# EAGLE library part DICEII (library NewSDR)
Wavefront Technologies DICE II Digital Communications Engine
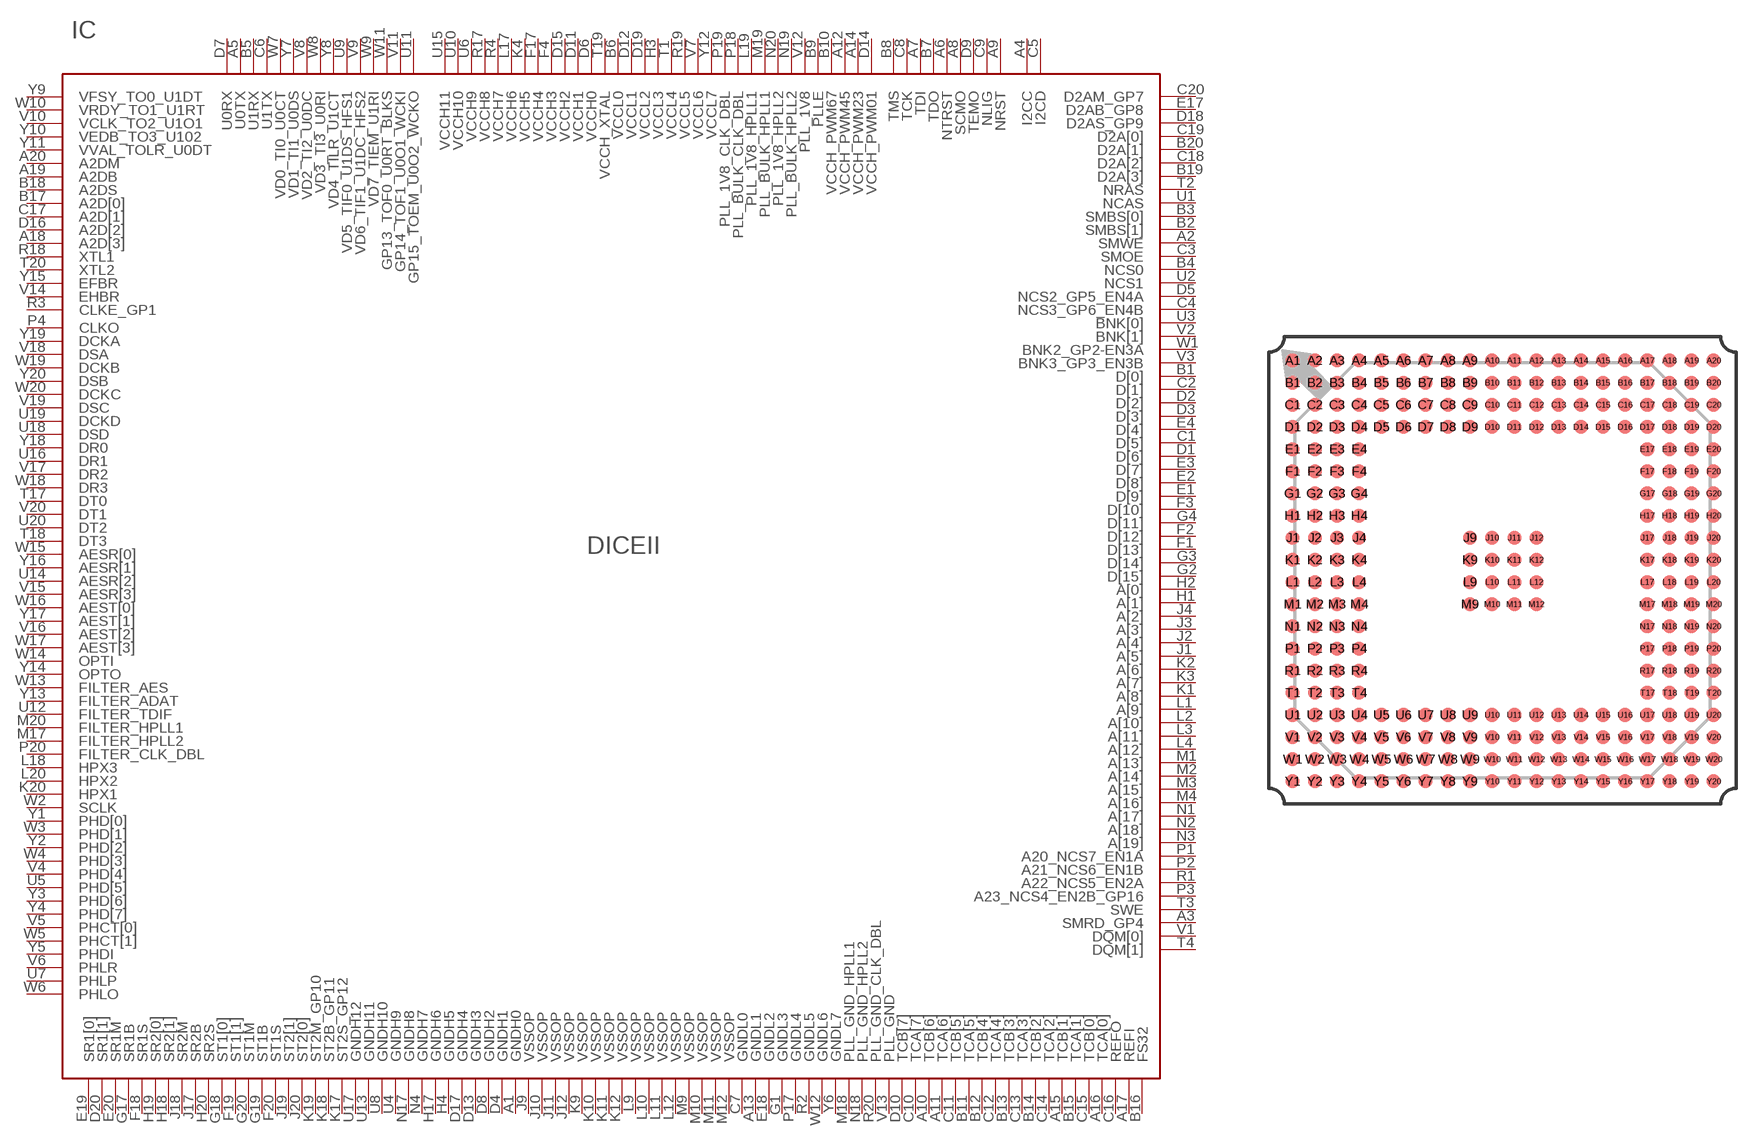
[diagram p6: symbol with the pads of BGA272-A; footprint BGA272-A]

Designator prefix IC

## DICEII  [BGA272-A]
A1  GNDH0  pwr
A2  SMWE  out
A3  SMRD_GP4
A4  I2CC
A5  U0TX  out
A6  NTRST  in
A7  TDI  in
A8  SCMO  in
A9  NRST  in
A10  TCB[6]  out
A11  TCA[6]  out
A12  VCCH_PWM45  pwr
A13  GNDL1  pwr
A14  VCCH_PWM23  pwr
A15  TCB[1]  out
A16  TCA[0]  out
A17  REFI  in
A18  A2D[3]  in
A19  A2DB  out
A20  A2DM  out
B1  D[0]
B2  SMBS[1]  out
B3  SMBS[0]  out
B4  NCS0  out
B5  U1RX  in
B6  VCCL0  pwr
B7  TDO  out
B8  TMS  in
B9  PLLE  in
B10  VCCH_PWM67  pwr
B11  TCA[5]  out
B12  TCB[4]  out
B13  TCB[3]  out
B14  TCB[2]  out
B15  TCA[1]  out
B16  FS32  out
B17  A2D[0]  in
B18  A2DS  out
B19  D2A[3]  out
B20  D2A[1]  out
C1  D[5]
C2  D[1]
C3  SMOE  out
C4  NCS3_GP6_EN4B
C5  I2CD
C6  U1TX  out
C7  GNDL0  pwr
C8  TCK  in
C9  NLIG  in
C10  TCA[7]  out
C11  TCB[5]  out
C12  TCA[4]  out
C13  TCA[3]  out
C14  TCA[2]  out
C15  TCB[0]  out
C16  REFO  out
C17  A2D[1]  in
C18  D2A[2]  out
C19  D2A[0]  out
C20  D2AM_GP7
D1  D[6]
D2  D[2]
D3  D[3]
D4  GNDH1  pwr
D5  NCS2_GP5_EN4A
D6  VCCH0  pwr
D7  U0RX  in
D8  GNDH2  pwr
D9  TEMO  in
D10  TCB[7]  out
D11  VCCH1  pwr
D12  VCCL1  pwr
D13  GNDH3  pwr
D14  VCCH_PWM01  pwr
D15  VCCH2  pwr
D16  A2D[2]  in
D17  GNDH4  pwr
D18  D2AS_GP9
D19  VCCL2  pwr
D20  SR1[1]  in
E1  D[9]
E2  D[8]
E3  D[7]
E4  D[4]
E17  D2AB_GP8
E18  GNDL2  pwr
E19  SR1[0]  in
E20  SR1M  out
F1  D[13]
F2  D[12]
F3  D[10]
F4  VCCH3  pwr
F17  VCCH4  pwr
F18  SR1S  out
F19  ST1[1]  out
F20  ST1S  out
G1  GNDL3  pwr
G2  D[15]
G3  D[14]
G4  D[11]
G17  SR1B  out
G18  ST1[0]  out
G19  ST1B  out
G20  ST1M  out
H1  A[1]  out
H2  A[0]  out
H3  VCCL3  pwr
H4  GNDH5  pwr
H17  GNDH6  pwr
H18  SR2[1]  in
H19  SR2[0]  in
H20  SR2S  out
J1  A[5]  out
J2  A[4]  out
J3  A[3]  out
J4  A[2]  out
J9  VSSOP  pwr
J10  VSSOP  pwr
J11  VSSOP  pwr
J12  VSSOP  pwr
J17  SR2B  out
J18  SR2M  out
J19  ST2[1]  out
J20  ST2[0]  out
K1  A[8]  out
K2  A[6]  out
K3  A[7]  out
K4  VCCH5  pwr
K9  VSSOP  pwr
K10  VSSOP  pwr
K11  VSSOP  pwr
K12  VSSOP  pwr
K17  ST2S_GP12
K18  ST2B_GP11
K19  ST2M_GP10
K20  HPX1  out
L1  A[9]  out
L2  A[10]  out
L3  A[11]  out
L4  A[12]  out
L9  VSSOP  pwr
L10  VSSOP  pwr
L11  VSSOP  pwr
L12  VSSOP  pwr
L17  VCCH6  pwr
L18  HPX3
L19  PLL_1V8_HPLL1  pwr
L20  HPX2  out
M1  A[13]  out
M2  A[14]  out
M3  A[15]  out
M4  A[16]  out
M9  VSSOP  pwr
M10  VSSOP  pwr
M11  VSSOP  pwr
M12  VSSOP  pwr
M17  FILTER_HPLL2  pas
M18  PLL_GND_HPLL1  pwr
M19  PLL_BULK_HPLL1  pwr
M20  FILTER_HPLL1  pas
N1  A[17]  out
N2  A[18]  out
N3  A[19]  out
N4  GNDH7  pwr
N17  GNDH8  pwr
N18  PLL_GND_HPLL2  pwr
N19  PLL_BULK_HPLL2  pwr
N20  PLL_1V8_HPLL2  pwr
P1  A20_NCS7_EN1A
P2  A21_NCS6_EN1B
P3  A23_NCS4_EN2B_GP16
P4  CLKO  out
P17  GNDL4  pwr
P18  PLL_BULK_CLK_DBL  pwr
P19  PLL_1V8_CLK_DBL  pwr
P20  FILTER_CLK_DBL  pas
R1  A22_NCS5_EN2A
R2  GNDL5  pwr
R3  CLKE_GP1
R4  VCCH7  pwr
R17  VCCH8  pwr
R18  XTL1  in
R19  VCCL5  pwr
R20  PLL_GND_CLK_DBL  pwr
T1  VCCL4  pwr
T2  NRAS  out
T3  SWE  out
T4  DQM[1]  out
T17  DT0  out
T18  DT3  out
T19  VCCH_XTAL  pwr
T20  XTL2  out
U1  NCAS  out
U2  NCS1  out
U3  BNK[0]  out
U4  GNDH9  pwr
U5  PHD[5]
U6  VCCH9  pwr
U7  PHLP
U8  GNDH10  pwr
U9  VD5_TIF0_U1DS_HFS1
U10  VCCH10  pwr
U11  GP15_TOEM_U0O2_WCKO
U12  FILTER_TDIF  pas
U13  GNDH11  pwr
U14  AESR[2]  in
U15  VCCH11  pwr
U16  DR1  in
U17  GNDH12  pwr
U18  DSD
U19  DCKD
U20  DT2  out
V1  DQM[0]  out
V2  BNK[1]  out
V3  BNK3_GP3_EN3B
V4  PHD[4]
V5  PHCT[0]
V6  PHLR  out
V7  VCCL6  pwr
V8  VD2_TI2_U0DC
V9  VD6_TIF1_U1DC_HFS2
V10  VCLK_TO2_U1O1
V11  GP14_TOF1_U0O1_WCKI
V12  PLL_1V8  pwr
V13  PLL_GND  pwr
V14  EHBR
V15  AESR[3]  in
V16  AEST[2]  out
V17  DR2  in
V18  DSA
V19  DSC
V20  DT1  out
W1  BNK2_GP2-EN3A
W2  SCLK  in
W3  PHD[1]
W4  PHD[3]
W5  PHCT[1]
W6  PHLO  in
W7  VD0_TI0_U0CT
W8  VD3_TI3_U0RI
W9  VD7_TIEM_U1RI
W10  VRDY_TO1_U1RT
W11  GP13_TOF0_U0RT_BLKS
W12  GNDL6  pwr
W13  FILTER_AES  pas
W14  OPTI  in
W15  AESR[0]  in
W16  AEST[0]  out
W17  AEST[3]  out
W18  DR3  in
W19  DCKB
W20  DCKC
Y1  PHD[0]
Y2  PHD[2]
Y3  PHD[6]
Y4  PHD[7]
Y5  PHDI  in
Y6  GNDL7  pwr
Y7  VD1_TI1_U0DS
Y8  VD4_TILR_U1CT
Y9  VFSY_TO0_U1DT
Y10  VEDB_TO3_U102
Y11  VVAL_TOLR_U0DT
Y12  VCCL7  pwr
Y13  FILTER_ADAT  pas
Y14  OPTO  out
Y15  EFBR
Y16  AESR[1]  in
Y17  AEST[1]  out
Y18  DR0  in
Y19  DCKA
Y20  DSB

## Footprint BGA272-A (pad centres in mm)
272 Ball Grid Array Type A
smd 0.8 x 0.8: A1 -12.025,12.025; A2 -10.755,12.025; A3 -9.485,12.025; A4 -8.215,12.025; A5 -6.945,12.025; A6 -5.675,12.025; A7 -4.405,12.025; A8 -3.135,12.025; A9 -1.865,12.025; A10 -0.595,12.025; A11 0.675,12.025; A12 1.945,12.025; A13 3.215,12.025; A14 4.485,12.025; A15 5.755,12.025; A16 7.025,12.025; A17 8.295,12.025; A18 9.565,12.025; A19 10.835,12.025; A20 12.105,12.025; B1 -12.025,10.755; B2 -10.755,10.755; B3 -9.485,10.755; B4 -8.215,10.755; B5 -6.945,10.755; B6 -5.675,10.755; B7 -4.405,10.755; B8 -3.135,10.755; B9 -1.865,10.755; B10 -0.595,10.755; B11 0.675,10.755; B12 1.945,10.755; B13 3.215,10.755; B14 4.485,10.755; B15 5.755,10.755; B16 7.025,10.755; B17 8.295,10.755; B18 9.565,10.755; B19 10.835,10.755; B20 12.105,10.755; C1 -12.025,9.485; C2 -10.755,9.485; C3 -9.485,9.485; C4 -8.215,9.485; C5 -6.945,9.485; C6 -5.675,9.485; C7 -4.405,9.485; C8 -3.135,9.485; C9 -1.865,9.485; C10 -0.595,9.485; C11 0.675,9.485; C12 1.945,9.485; C13 3.215,9.485; C14 4.485,9.485; C15 5.755,9.485; C16 7.025,9.485; C17 8.295,9.485; C18 9.565,9.485; C19 10.835,9.485; C20 12.105,9.485; D1 -12.025,8.215; D2 -10.755,8.215; D3 -9.485,8.215; D4 -8.215,8.215; D5 -6.945,8.215; D6 -5.675,8.215; D7 -4.405,8.215; D8 -3.135,8.215; D9 -1.865,8.215; D10 -0.595,8.215; D11 0.675,8.215; D12 1.945,8.215; D13 3.215,8.215; D14 4.485,8.215; D15 5.755,8.215; D16 7.025,8.215; D17 8.295,8.215; D18 9.565,8.215; D19 10.835,8.215; D20 12.105,8.215; E1 -12.025,6.945; E2 -10.755,6.945; E3 -9.485,6.945; E4 -8.215,6.945; E17 8.295,6.945; E18 9.565,6.945; E19 10.835,6.945; E20 12.105,6.945; F1 -12.025,5.675; F2 -10.755,5.675; F3 -9.485,5.675; F4 -8.215,5.675; F17 8.295,5.675; F18 9.565,5.675; F19 10.835,5.675; F20 12.105,5.675; G1 -12.025,4.405; G2 -10.755,4.405; G3 -9.485,4.405; G4 -8.215,4.405; G17 8.295,4.405; G18 9.565,4.405; G19 10.835,4.405; G20 12.105,4.405; H1 -12.025,3.135; H2 -10.755,3.135; H3 -9.485,3.135; H4 -8.215,3.135; H17 8.295,3.135; H18 9.565,3.135; H19 10.835,3.135; H20 12.105,3.135; J1 -12.025,1.865; J2 -10.755,1.865; J3 -9.485,1.865; J4 -8.215,1.865; J9 -1.865,1.865; J10 -0.595,1.865; J11 0.675,1.865; J12 1.945,1.865; J17 8.295,1.865; J18 9.565,1.865; J19 10.835,1.865; J20 12.105,1.865; K1 -12.025,0.595; K2 -10.755,0.595; K3 -9.485,0.595; K4 -8.215,0.595; K9 -1.865,0.595; K10 -0.595,0.595; K11 0.675,0.595; K12 1.945,0.595; K17 8.295,0.595; K18 9.565,0.595; K19 10.835,0.595; K20 12.105,0.595; L1 -12.025,-0.675; L2 -10.755,-0.675; L3 -9.485,-0.675; L4 -8.215,-0.675; L9 -1.865,-0.675; L10 -0.595,-0.675; L11 0.675,-0.675; L12 1.945,-0.675; L17 8.295,-0.675; L18 9.565,-0.675; L19 10.835,-0.675; L20 12.105,-0.675; M1 -12.025,-1.945; M2 -10.755,-1.945; M3 -9.485,-1.945; M4 -8.215,-1.945; M9 -1.865,-1.945; M10 -0.595,-1.945; M11 0.675,-1.945; M12 1.945,-1.945; M17 8.295,-1.945; M18 9.565,-1.945; M19 10.835,-1.945; M20 12.105,-1.945; N1 -12.025,-3.215; N2 -10.755,-3.215; N3 -9.485,-3.215; N4 -8.215,-3.215; N17 8.295,-3.215; N18 9.565,-3.215; N19 10.835,-3.215; N20 12.105,-3.215; P1 -12.025,-4.485; P2 -10.755,-4.485; P3 -9.485,-4.485; P4 -8.215,-4.485; P17 8.295,-4.485; P18 9.565,-4.485; P19 10.835,-4.485; P20 12.105,-4.485; R1 -12.025,-5.755; R2 -10.755,-5.755; R3 -9.485,-5.755; R4 -8.215,-5.755; R17 8.295,-5.755; R18 9.565,-5.755; R19 10.835,-5.755; R20 12.105,-5.755; T1 -12.025,-7.025; T2 -10.755,-7.025; T3 -9.485,-7.025; T4 -8.215,-7.025; T17 8.295,-7.025; T18 9.565,-7.025; T19 10.835,-7.025; T20 12.105,-7.025; U1 -12.025,-8.295; U2 -10.755,-8.295; U3 -9.485,-8.295; U4 -8.215,-8.295; U5 -6.945,-8.295; U6 -5.675,-8.295; U7 -4.405,-8.295; U8 -3.135,-8.295; U9 -1.865,-8.295; U10 -0.595,-8.295; U11 0.675,-8.295; U12 1.945,-8.295; U13 3.215,-8.295; U14 4.485,-8.295; U15 5.755,-8.295; U16 7.025,-8.295; U17 8.295,-8.295; U18 9.565,-8.295; U19 10.835,-8.295; U20 12.105,-8.295; V1 -12.025,-9.565; V2 -10.755,-9.565; V3 -9.485,-9.565; V4 -8.215,-9.565; V5 -6.945,-9.565; V6 -5.675,-9.565; V7 -4.405,-9.565; V8 -3.135,-9.565; V9 -1.865,-9.565; V10 -0.595,-9.565; V11 0.675,-9.565; V12 1.945,-9.565; V13 3.215,-9.565; V14 4.485,-9.565; V15 5.755,-9.565; V16 7.025,-9.565; V17 8.295,-9.565; V18 9.565,-9.565; V19 10.835,-9.565; V20 12.105,-9.565; W1 -12.025,-10.835; W2 -10.755,-10.835; W3 -9.485,-10.835; W4 -8.215,-10.835; W5 -6.945,-10.835; W6 -5.675,-10.835; W7 -4.405,-10.835; W8 -3.135,-10.835; W9 -1.865,-10.835; W10 -0.595,-10.835; W11 0.675,-10.835; W12 1.945,-10.835; W13 3.215,-10.835; W14 4.485,-10.835; W15 5.755,-10.835; W16 7.025,-10.835; W17 8.295,-10.835; W18 9.565,-10.835; W19 10.835,-10.835; W20 12.105,-10.835; Y1 -12.025,-12.105; Y2 -10.755,-12.105; Y3 -9.485,-12.105; Y4 -8.215,-12.105; Y5 -6.945,-12.105; Y6 -5.675,-12.105; Y7 -4.405,-12.105; Y8 -3.135,-12.105; Y9 -1.865,-12.105; Y10 -0.595,-12.105; Y11 0.675,-12.105; Y12 1.945,-12.105; Y13 3.215,-12.105; Y14 4.485,-12.105; Y15 5.755,-12.105; Y16 7.025,-12.105; Y17 8.295,-12.105; Y18 9.565,-12.105; Y19 10.835,-12.105; Y20 12.105,-12.105